# EAGLE library part 1X16 (library PiB_connectors)
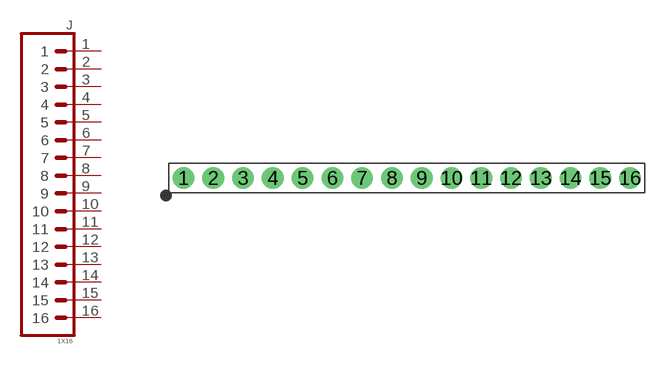
[diagram p16: symbol with the pads of HDRV16W64P254_1X16_4064X254X838B; footprint HDRV16W64P254_1X16_4064X254X838B]

Designator prefix J

## 1X16_PTH_VERT_MALE_2.54MM (DATASHEET: https://drawings-pdf.s3.amazonaws.com/C10436.pdf; DIST: Digikey; DISTLINK: https://www.digikey.com/products/en?keywords=S1012E-16-ND; DISTPN: S1012E-16-ND; MFR: Sullins Connector Solutions; MPN: PEC16SAAN; VALUE: VERT MALE 2.54MM)  [HDRV16W64P254_1X16_4064X254X838B]
1  1  pas
2  2  pas
3  3  pas
4  4  pas
5  5  pas
6  6  pas
7  7  pas
8  8  pas
9  9  pas
10  10  pas
11  11  pas
12  12  pas
13  13  pas
14  14  pas
15  15  pas
16  16  pas

## Footprint HDRV16W64P254_1X16_4064X254X838B (pad centres in mm)
Single-row, 16-pin Pin Header (Male) Straight, 2.54 mm (0.10 in) col pitch, 5.84 mm mating length, 40.64 X 2.54 X 8.38 mm body Single-row (1X16), 16-pin Pin Header (Male) Straight package with 2.54 mm (0.10 in) col pitch, 0.64 mm lead width, 3.05 mm tail length and 5.84 mm mating length with overall size 40.64 X 2.54 X 8.38 mm, pin pattern - zigzag from bottom left
drill 1 pad 1.85: 1 0,0; 2 2.54,0; 3 5.08,0; 4 7.62,0; 5 10.16,0; 6 12.7,0; 7 15.24,0; 8 17.78,0; 9 20.32,0; 10 22.86,0; 11 25.4,0; 12 27.94,0; 13 30.48,0; 14 33.02,0; 15 35.56,0; 16 38.1,0